# Altium footprint library JLink_ARM-OB_072_Pcb.PcbLib: 9 footprints
Each footprint in its own frame and in the unit in brackets; x right, y up, seen from the top. Pads: shape width x height; smd on the part's side, far side on the other; paste and mask are expansions set on the pad; w line width, h text height; cw(c..) or ccw(c..) is an arc to the next point about the centre after c.
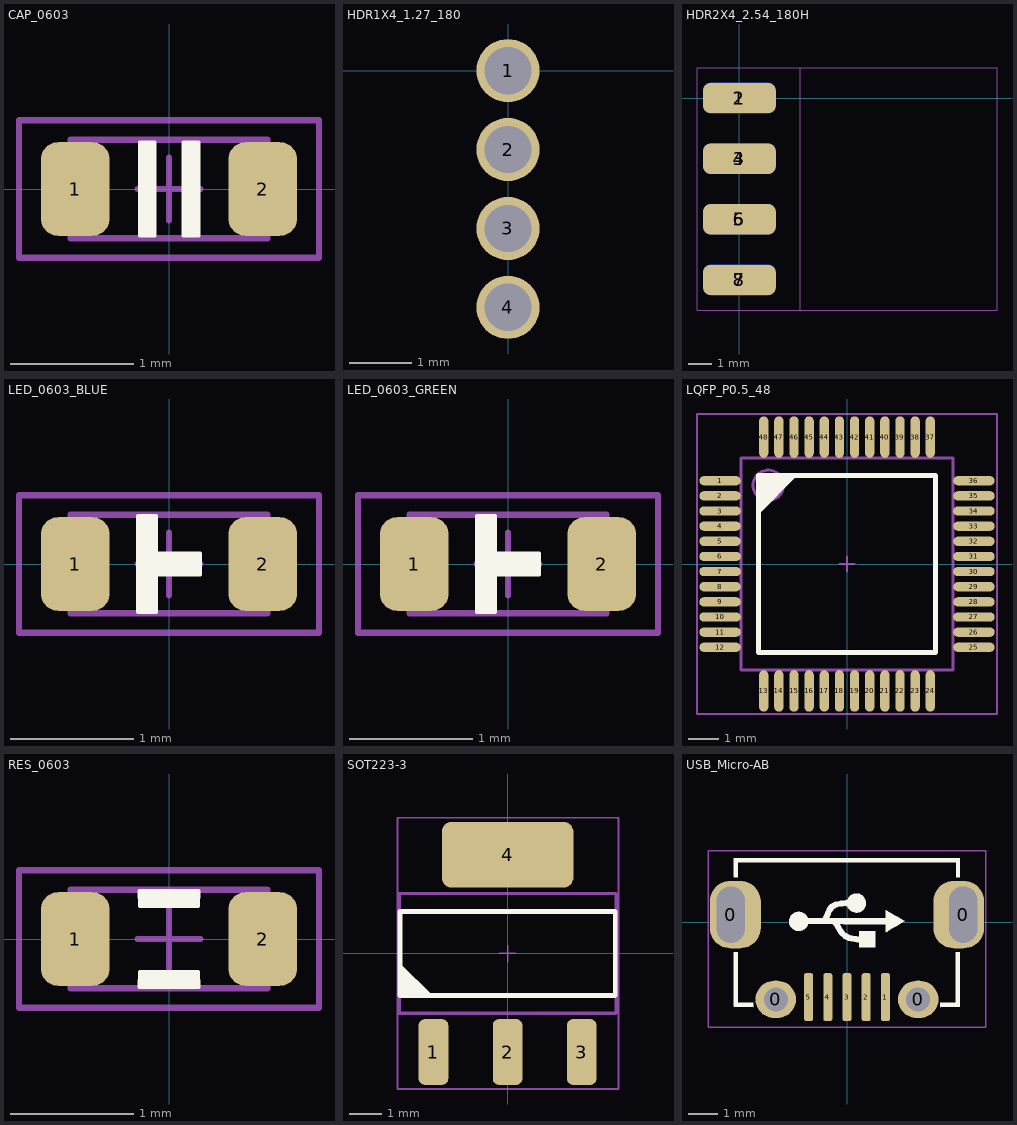
[diagram p0: the footprints below, top view; thin cyan lines are the x and y axes]

## CAP_0603 [mil]
height 31.5
pads (2):
  rrect50% 22x30 smd: 1(-30,0) 2(30,0)
Top Overlay:
  region: -4.5,15 -9.5,15 -9.5,-15 -4.5,-15
  region: 4.5,-15 9.5,-15 9.5,15 4.5,15
  lines w1: -9.5,-15 -9.5,15 -4.5,15 -4.5,-15 -9.5,-15 ; 4.5,-15 9.5,-15 9.5,15 4.5,15 4.5,-15
Mechanical 13:
  lines w2: -10,0 10,0 ; 0,-10 0,10 ; -31.5,-15.75 -31.5,15.75 31.5,15.75 31.5,-15.75 -31.5,-15.75
Mechanical 14:
  lines w2: -48,-22 -48,22 48,22 48,-22 -48,-22
3D body "CAPC1608X08L.step": height 31.5, standoff 0, extent -31.5,-15.74 31.5,15.75

## HDR1X4_1.27_180 [mil]
height 169.29
pads (4):
  round 40 hole 30: 1(0,0) 2(0,-50) 3(0,-100) 4(0,-150)

## HDR2X4_2.54_180H [mil]
height 169.29
pads (8):
  rrect50% 120x50 smd: 1(0,0) 3(0,-100) 5(0,-200) 7(0,-300)
  rrect50% 120x50 smd far side: 2(0,0) 4(0,-100) 6(0,-200) 8(0,-300)
Mechanical 13:
  lines w2: -70,-350 425,-350 425,50 -70,50 -70,-350
Mechanical 14:
  lines w2: -70,-350 100,-350 100,50 -70,50 -70,-350
Mechanical 15:
  lines w2: -70,-350 100,-350 100,50 -70,50 -70,-350
3D body "pin_header_awl254-dg-g08d.stp": height 100, standoff -100, extent -38.11,-350 414.65,50

## LED_0603_BLUE [mil]
height 31.5
pads (2):
  rrect50% 22x30 smd: 1(-30,0) 2(30,0)
Top Overlay:
  region: -10,15.5 -4,15.5 -4,3.5 10,3.5 10,-3.5 -4,-3.5 -4,-15.5 -10,-15.5
  lines w1: -10,-15.5 -4,-15.5 -4,-3.5 10,-3.5 10,3.5 -4,3.5 -4,15.5 -10,15.5 -10,-15.5
Mechanical 13:
  lines w2: -10,0 10,0 ; 0,-10 0,10 ; -31.5,-15.75 31.5,-15.75 31.5,15.75 -31.5,15.75 -31.5,-15.75
Mechanical 14:
  lines w2: -48,-22 -48,22 48,22 48,-22 -48,-22
3D body "User Library-led_0603LED0603 blue.STEP": height 23.62, standoff 0, extent -31.89,-15.74 31.89,15.75

## LED_0603_GREEN [mil]
height 31.5
pads (2):
  rrect50% 22x30 smd: 1(-30,0) 2(30,0)
Top Overlay:
  region: -10,15.5 -4,15.5 -4,3.5 10,3.5 10,-3.5 -4,-3.5 -4,-15.5 -10,-15.5
  lines w1: -10,-15.5 -10,15.5 -4,15.5 -4,3.5 10,3.5 10,-3.5 -4,-3.5 -4,-15.5 -10,-15.5
Mechanical 13:
  lines w2: -10,0 10,0 ; 0,-10 0,10 ; -31.5,-15.75 -31.5,15.75 31.5,15.75 31.5,-15.75 -31.5,-15.75
Mechanical 14:
  lines w2: -48,-22 48,-22 48,22 -48,22 -48,-22
3D body "User Library-led_0603LED0603 green.STEP": height 23.62, standoff 0, extent -31.89,-15.74 31.89,15.75

## LQFP_P0.5_48 [mil]
height 62.99
pads (48):
  oval 54x12 smd: 1(-165,108.27) 2(-165,88.58) 3(-165,68.9) 4(-165,49.21) 5(-165,29.53) 6(-165,9.84) 7(-165,-9.84) 8(-165,-29.53) 9(-165,-49.21) 10(-165,-68.9) 11(-165,-88.58) 12(-165,-108.27) 25(165,-108.27) 26(165,-88.58) 27(165,-68.9) 28(165,-49.21) 29(165,-29.53) 30(165,-9.84) 31(165,9.84) 32(165,29.53) 33(165,49.21) 34(165,68.9) 35(165,88.58) 36(165,108.27)
  oval 12x54 smd: 13(-108.27,-165) 14(-88.58,-165) 15(-68.9,-165) 16(-49.21,-165) 17(-29.53,-165) 18(-9.84,-165) 19(9.84,-165) 20(29.53,-165) 21(49.21,-165) 22(68.9,-165) 23(88.58,-165) 24(108.27,-165) 37(108.27,165) 38(88.58,165) 39(68.9,165) 40(49.21,165) 41(29.53,165) 42(9.84,165) 43(-9.84,165) 44(-29.53,165) 45(-49.21,165) 46(-68.9,165) 47(-88.58,165) 48(-108.27,165)
Top Overlay:
  region: -115,115 -65,115 -115,65
  lines w6: -115,-115 115,-115 115,115 -115,115 -115,-115
Mechanical 13:
  circle w3.94: c-102.36,102.36 r19.68
  lines w2: -10,0 10,0 ; 0,-10 0,10
  lines w3.94: -137.8,-137.8 137.8,-137.8 137.8,137.8 -137.8,137.8 -137.8,-137.8
Mechanical 14:
  lines w2: -195,-195 -195,195 195,195 195,-195 -195,-195
3D body "SW3dPS-Quad50M48.STEP": height 61.42, standoff 0, extent -177.16,-174.66 177.17,179.67

## RES_0603 [mil]
height 17.72
pads (2):
  rrect50% 22x30 smd: 1(-30,0) 2(30,0)
Top Overlay:
  region: -9.5,15.5 9.5,15.5 9.5,10.5 -9.5,10.5
  region: 9.5,-15.5 -9.5,-15.5 -9.5,-10.5 9.5,-10.5
  lines w1: -9.5,-15.5 9.5,-15.5 9.5,-10.5 -9.5,-10.5 -9.5,-15.5 ; -9.5,10.5 -9.5,15.5 9.5,15.5 9.5,10.5 -9.5,10.5
Mechanical 13:
  lines w2: -10,0 10,0 ; 0,-10 0,10 ; -31.5,-15.75 -31.5,15.75 31.5,15.75 31.5,-15.75 -31.5,-15.75
Mechanical 14:
  lines w2: -48,-22 48,-22 48,22 -48,22 -48,-22
3D body "RESC1608X05L.step": height 17.72, standoff 0, extent -31.49,-15.74 31.5,15.75

## SOT223-3 [mil]
height 70.87
pads (4):
  rrect40% 36x80 smd: 1(-90.16,-120) 2(0,-120) 3(90.16,-120)
  rrect30% 160x80 smd: 4(0,120)
Top Overlay:
  region: -131,-51.18 -131,-11.81 -91.63,-51.18
  lines w6: -131,-51.18 -131,51.18 131,51.18 131,-51.18 -131,-51.18
Mechanical 13:
  lines w2: -10,0 10,0 ; 0,-10 0,10
  lines w3.94: -131.89,-72.83 -131.89,72.83 131.89,72.83 131.89,-72.83 -131.89,-72.83
Mechanical 14:
  lines w2: -134,-165 -134,165 135,165 135,-165 -134,-165
3D body "SOT223-4.STEP": height 70.87, standoff 0, extent -131.89,-143.7 131.9,143.7

## USB_Micro-AB [mil]
height 153.54
pads (9):
  rrect80% 68x90 hole 37 slot 75 at 90 deg copper offset 6,0 mask+0: 0(-155,10)
  oval 54x50 hole 32 mask+0: 0(-95,-103) 0(95,-103)
  rrect80% 68x90 hole 37 slot 75 at 90 deg copper offset -6,0 mask+0: 0(155,10)
  rrect50% 12x64 smd: 1(51.18,-100) 2(25.59,-100) 3(0,-100) 4(-25.59,-100) 5(-51.18,-100)
Top Overlay:
  drawing of 24 lines, arcs and shapes, not listed
Mechanical 14:
  lines w2: -185,-140 185,-140 185,95 -185,95 -185,-140
3D body "User Library-MicroUSB-B_Molex_105017-0001.STEP": height 108.07, standoff -21.85, extent -161.42,-109.33 161.42,104.45